# Altium schematic symbol library SY55857L.SchLib: 1 symbol
Pins are listed as number, name and electrical type; pins without a type are passive.

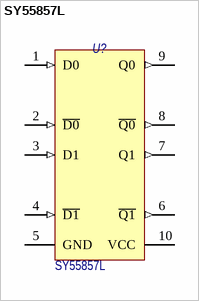
[diagram p0: symbol SY55857L]

## SY55857L
designator U?
2.5 Gbps Any Input-to-LVPECL Dual Translator; Потребление: 0,1; Назначение: Any Input-to-LVPECL Dual Translator; Наименование: SY55857L
footprint MSOP-10 (10-Lead Mini Small Outline Package)
pins: 1 D0 (in), 2 ~{D0} (in), 3 D1 (in), 4 ~{D1} (in), 5 GND (power), 6 ~{Q1} (out), 7 Q1 (out), 8 ~{Q0} (out), 9 Q0 (out), 10 VCC (power)